# Altium footprint library XS library.PcbLib: 379 footprints (part 12 of 24)
Each footprint in its own frame and in the unit in brackets; x right, y up, seen from the top. Pads: shape width x height; smd on the part's side, far side on the other; paste and mask are expansions set on the pad; w line width, h text height; cw(c..) or ccw(c..) is an arc to the next point about the centre after c.
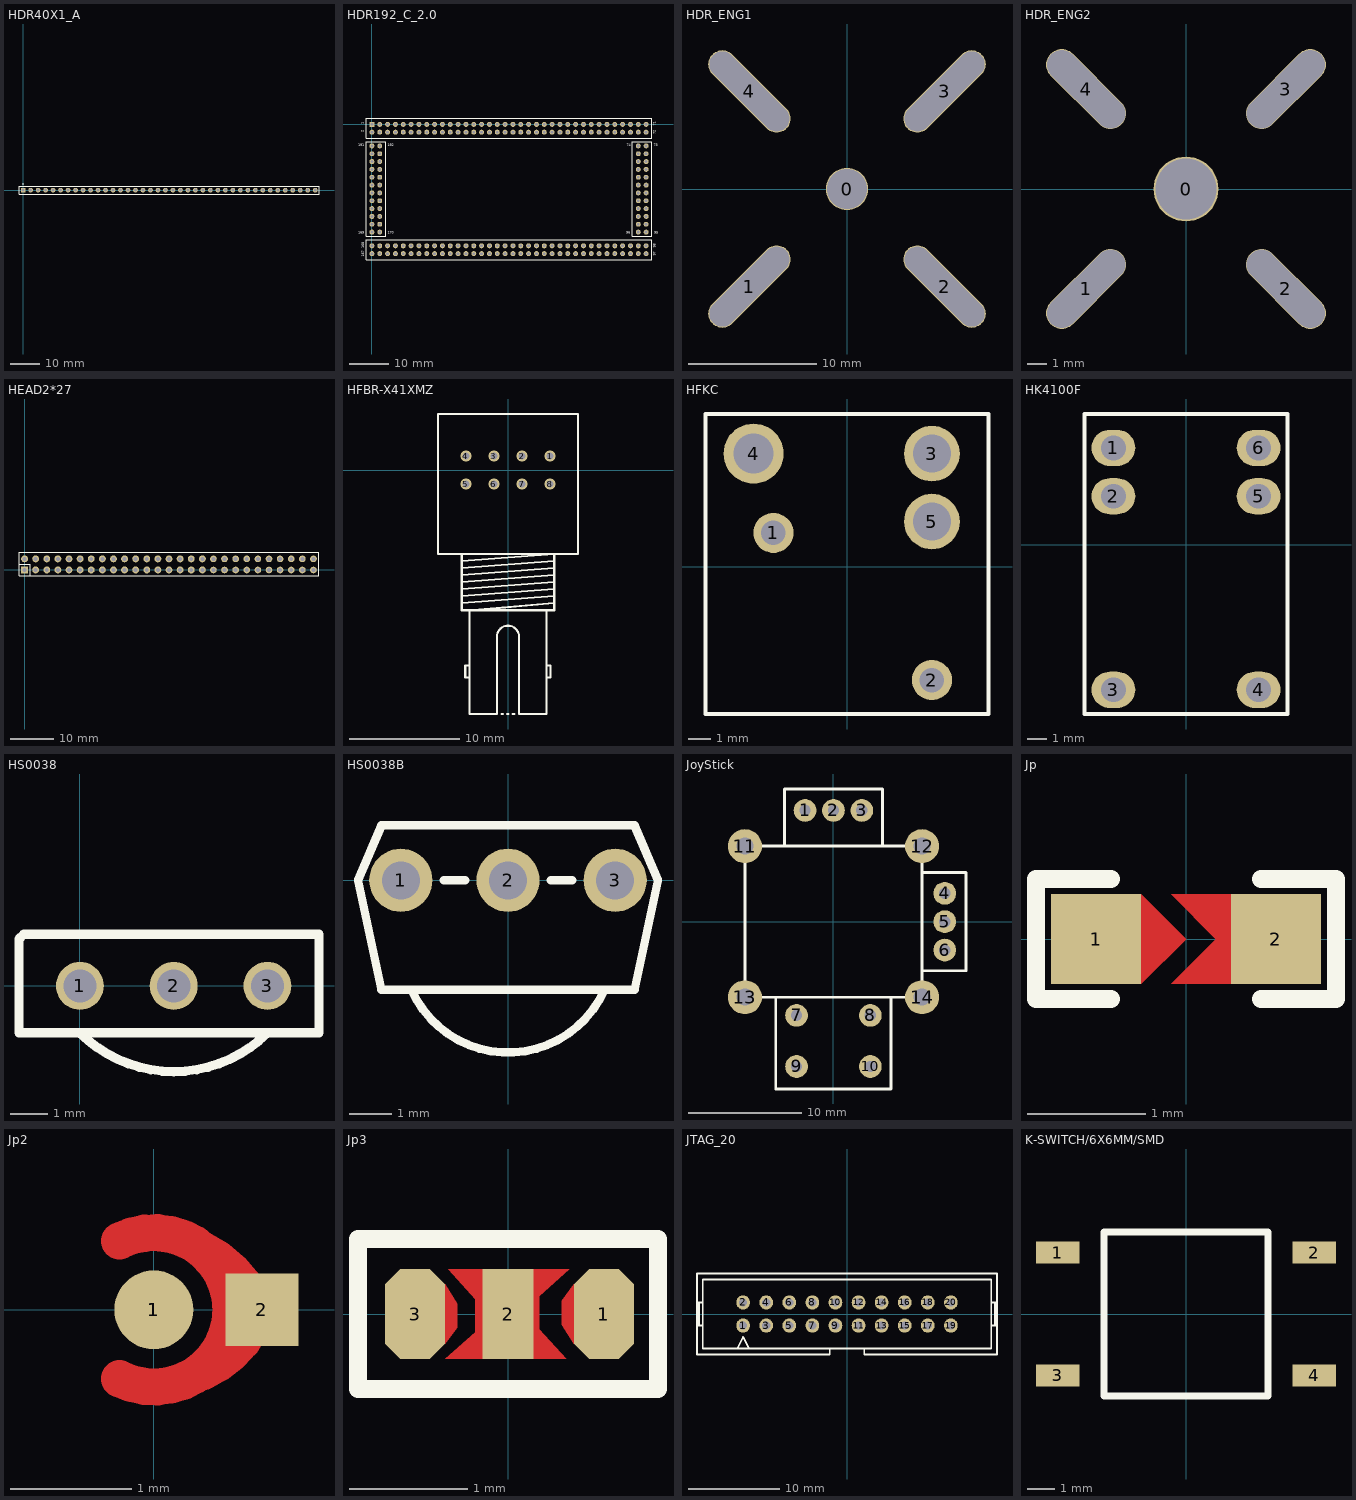
[diagram p11: the footprints below, top view; thin cyan lines are the x and y axes]

## HDR40X1_A [mm] "Connector; Header; 30 Position"
height 1.2
pads (40):
  rect 1.6x1.6 hole 0.99: 1(0,0)
  round 1.6 hole 0.99: 2(2.54,0) 3(5.08,0) 4(7.62,0) 5(10.16,0) 6(12.7,0) 7(15.24,0) 8(17.78,0) 9(20.32,0) 10(22.86,0) 11(25.4,0) 12(27.94,0) 13(30.48,0) 14(33.02,0) 15(35.56,0) 16(38.1,0) 17(40.64,0) 18(43.18,0) 19(45.72,0) 20(48.26,0) 21(50.8,0) 22(53.34,0) 23(55.88,0) 24(58.42,0) 25(60.96,0) 26(63.5,0) 27(66.04,0) 28(68.58,0) 29(71.12,0) 30(73.66,0)
  round 1.6 hole 1: 31(76.2,0) 32(78.74,0) 33(81.28,0) 34(83.82,0) 35(86.36,0) 36(88.9,0) 37(91.44,0) 38(93.98,0) 39(96.52,0) 40(99.06,0)
Top Overlay:
  circle w0.25: c0,2.05 r0.125
  lines w0.2: -1.4,-1.4 -1.4,1.4 100.33,1.4 100.33,-1.4 -1.4,-1.4

## HDR192_C_2.0 [mm] "2440"
height 7
pads (192):
  rect 1.27x1.27 hole 0.7: 1(0,0)
  round 1.27 hole 0.7: 2(0,-2) 3(2,0) 4(2,-2) 5(4,0) 6(4,-2) 7(6,0) 8(6,-2) 9(8,0) 10(8,-2) 11(10,0) 12(10,-2) 13(12,0) 14(12,-2) 15(14,0) 16(14,-2) 17(16,0) 18(16,-2) 19(18,0) 20(18,-2) 21(20,0) 22(20,-2) 23(22,0) 24(22,-2) 25(24,0) 26(24,-2) 27(26,0) 28(26,-2) 29(28,0) 30(28,-2) 31(30,0) 32(30,-2) 33(32,0) 34(32,-2) 35(34,0) 36(34,-2) 37(36,0) 38(36,-2) 39(38,0) 40(38,-2) 41(40,0) 42(40,-2) 43(42,0) 44(42,-2) 45(44,0) 46(44,-2) 47(46,0) 48(46,-2) 49(48,0) 50(48,-2) 51(50,0) 52(50,-2) 53(52,0) 54(52,-2) 55(54,0) 56(54,-2) 57(56,0) 58(56,-2) 59(58,0) 60(58,-2) 61(60,0) 62(60,-2) 63(62,0) 64(62,-2) 65(64,0) 66(64,-2) 67(66,0) 68(66,-2) 69(68,0) 70(68,-2) 71(70,0) 72(70,-2) 73(70,-5.5) 74(68,-5.5) 75(70,-7.5) 76(68,-7.5) 77(70,-9.5) 78(68,-9.5) 79(70,-11.5) 80(68,-11.5) 81(70,-13.5) 82(68,-13.5) 83(70,-15.5) 84(68,-15.5) 85(70,-17.5) 86(68,-17.5) 87(70,-19.5) 88(68,-19.5) 89(70,-21.5) 90(68,-21.5) 91(70,-23.5) 92(68,-23.5) 93(70,-25.5) 94(68,-25.5) 95(70,-27.5) 96(68,-27.5) 97(70,-33) 98(70,-31) 99(68,-33) 100(68,-31) 101(66,-33) 102(66,-31) 103(64,-33) 104(64,-31) 105(62,-33) 106(62,-31) 107(60,-33) 108(60,-31) 109(58,-33) 110(58,-31) 111(56,-33) 112(56,-31) 113(54,-33) 114(54,-31) 115(52,-33) 116(52,-31) 117(50,-33) 118(50,-31) 119(48,-33) 120(48,-31) 121(46,-33) 122(46,-31) 123(44,-33) 124(44,-31) 125(42,-33) 126(42,-31) 127(40,-33) 128(40,-31) 129(38,-33) 130(38,-31) 131(36,-33) 132(36,-31) 133(34,-33) 134(34,-31) 135(32,-33) 136(32,-31) 137(30,-33) 138(30,-31) 139(28,-33) 140(28,-31) 141(26,-33) 142(26,-31) 143(24,-33) 144(24,-31) 145(22,-33) 146(22,-31) 147(20,-33) 148(20,-31) 149(18,-33) 150(18,-31) 151(16,-33) 152(16,-31) 153(14,-33) 154(14,-31) 155(12,-33) 156(12,-31) 157(10,-33) 158(10,-31) 159(8,-33) 160(8,-31) 161(6,-33) 162(6,-31) 163(4,-33) 164(4,-31) 165(2,-33) 166(2,-31) 167(0,-33) 168(0,-31) 169(0,-27.5) 170(2,-27.5) 171(0,-25.5) 172(2,-25.5) 173(0,-23.5) 174(2,-23.5) 175(0,-21.5) 176(2,-21.5) 177(0,-19.5) 178(2,-19.5) 179(0,-17.5) 180(2,-17.5) 181(0,-15.5) 182(2,-15.5) 183(0,-13.5) 184(2,-13.5) 185(0,-11.5) 186(2,-11.5) 187(0,-9.5) 188(2,-9.5) 189(0,-7.5) 190(2,-7.5) 191(0,-5.5) 192(2,-5.5)
Top Overlay:
  lines w0.2: -1.469,-3.5 -1.469,1.5 71.439,1.5 71.439,-3.5 -1.469,-3.5
  lines w0.254: -1.5,-34.5 71.5,-34.5 71.5,-29.5 -1.5,-29.5 -1.5,-34.5 ; -1.5,-28.5 -1.5,-4.5 3.5,-4.5 3.5,-28.5 -1.5,-28.5 ; 66.5,-28.5 71.5,-28.5 71.5,-4.5 66.5,-4.5 66.5,-28.5
  text "1" at -2.032,0 h0.64
  text "2" at -2.032,-2.032 h0.64
  text "71" at 72.4,-0.4 h0.64
  text "72" at 72.4,-2.5 h0.64
  text "74" at 65.024,-5.588 h0.64
  text "73" at 72,-5.6 h0.64
  text "95" at 72.136,-27.94 h0.64
  text "96" at 64.9,-27.9 h0.64
  text "97" at 72.4,-33.6 h0.64
  text "98" at 72.4,-31.5 h0.64
  text "167" at -2,-33.8 h0.64
  text "170" at 4.064,-27.94 h0.64
  text "169" at -3.556,-27.94 h0.64
  text "191" at -3.556,-5.588 h0.64
  text "192" at 4.064,-5.588 h0.64
  text "168" at -2,-31.6 h0.64

## HDR_ENG1 [mm] "舵机"
height 3
pads (5):
  round 3.3 hole 3.1: 0(0,0)
  oval 2.2x8.2 hole 2 slot 8 at 45 deg rot 135: 1(-7.62,-7.62) 3(7.62,7.62)
  oval 2.2x8.2 hole 2 slot 8 at 135 deg rot 45: 2(7.62,-7.62) 4(-7.62,7.62)

## HDR_ENG2 [mm] "舵机"
height 3
pads (5):
  round 3.3 hole 3.1: 0(0,0)
  oval 1.6x5.1 hole 1.5 slot 5 at 45 deg rot 135: 1(-5.08,-5.08) 3(5.08,5.08)
  oval 1.6x5.1 hole 1.5 slot 5 at 135 deg rot 45: 2(5.08,-5.08) 4(-5.08,5.08)

## HEAD2*27 [mil]
pads (54):
  rect 62x62 hole 35: 1(0.42,0.42)
  round 62 hole 35: 2(0.42,100.42) 3(100.42,0.42) 4(100.42,100.42) 5(200.43,0.42) 6(200.43,100.42) 7(300.43,0.42) 8(300.43,100.42) 9(400.43,0.42) 10(400.43,100.42) 11(500.43,0.42) 12(500.43,100.42) 13(600.42,0.42) 14(600.42,100.42) 15(700.42,0.42) 16(700.42,100.42) 17(800.42,0.42) 18(800.42,100.42) 19(900.42,0.42) 20(900.42,100.42) 21(1000.42,0.42) 22(1000.42,100.42) 23(1100.42,0.42) 24(1100.42,100.42) 25(1200.42,0.42) 26(1200.42,100.42) 27(1300.42,0.42) 28(1300.42,100.42) 29(1400.42,0.42) 30(1400.42,100.42) 31(1500.42,0.42) 32(1500.42,100.42) 33(1600.42,0.42) 34(1600.42,100.42)
  round 60 hole 35: 35(1700,0) 36(1700,100) 37(1800,0) 38(1800,100) 39(1900,0) 40(1900,100) 41(2000,0) 42(2000,100) 43(2100,0) 44(2100,100) 45(2200,0) 46(2200,100) 47(2300,0) 48(2300,100) 49(2400,0) 50(2400,100) 51(2500,0) 52(2500,100) 53(2600,0) 54(2600,100)
Top Overlay:
  lines w7: -49.58,51.18 51.18,51.18 51.18,-49.58 ; -49.58,-49.58 1650.42,-49.58 2650,-49.58 2650,157.48 -47.97,157.48 -49.58,155.87 -49.58,150.43 -49.58,-49.58

## HFBR-X41XMZ [mm]
height 10.2
pads (8):
  round 1 hole 0.6: 1(3.81,1.27) 2(1.27,1.27) 3(-1.27,1.27) 4(-3.81,1.27) 5(-3.81,-1.27) 6(-1.27,-1.27) 7(1.27,-1.27) 8(3.81,-1.27)
Top Overlay:
  lines w0.2: -4.2,-12.065 4.2,-11.43 ; -4.2,-11.43 4.2,-10.795 ; -4.2,-10.795 4.2,-10.16 ; -4.2,-10.16 4.2,-9.525 ; -4.2,-9.525 4.2,-8.89 ; -4.2,-8.89 4.191,-8.255 ; -4.191,-8.255 4.2,-7.62 ; -3.5,-18.82 -3.881,-18.82 -3.881,-17.72 -3.5,-17.72 ; -3.175,-12.72 4.2,-12.065 ; -0.579,-22.12 -0.452,-22.12 ; -0.071,-22.12 0.056,-22.12 ; 0.437,-22.12 0.564,-22.12 ; 1,-15.12 1,-22.12 3.5,-22.12 3.5,-12.72 -3.5,-12.72 -3.5,-22.12 -1,-22.12 -1,-15.12 cw(c0,-15.113) 1,-15.113 ; 3.5,-18.82 3.866,-18.82 3.866,-17.72 3.5,-17.72 ; 4.2,-7.62 4.2,-12.72 -4.2,-12.72 -4.2,-7.62 4.2,-7.62 ; -6.35,-7.62 6.35,-7.62 6.35,5.08 -6.35,5.08 -6.35,-7.62

## HFKC [mm] "继电器"
height 11.8
pads (5):
  round 1.8 hole 1.1: 1(-3.302,1.524) 2(3.81,-5.08)
  round 2.5 hole 1.7: 3(3.81,5.08) 5(3.81,2.032)
  round 2.7 hole 1.8: 4(-4.191,5.08)
Top Overlay:
  lines w0.2: -6.35,-6.604 6.35,-6.604 6.35,6.858 -6.35,6.858 -6.35,-6.604

## HK4100F [mm] "继µ"
height 11.8
pads (6):
  oval 2.3x1.9 hole 1.3: 1(-3.81,5.08) 2(-3.81,2.54) 3(-3.81,-7.62) 4(3.81,-7.62) 5(3.81,2.54) 6(3.81,5.08)
Top Overlay:
  lines w0.2: -5.334,-8.89 5.334,-8.89 5.334,6.858 -5.334,6.858 -5.334,-8.89
3D body: height 12, standoff 0, extent -5.334,-8.89 5.334,6.858

## HS0038 [mm]
pads (3):
  round 1.3 hole 0.9: 1(0,0) 2(2.54,0) 3(5.08,0)
Top Overlay:
  lines w0.254: 0,-1.27 ccw(c2.54,1.27) 5.08,-1.27 ; -1.651,-1.27 6.477,-1.27 6.477,1.397 -1.524,1.397 -1.651,1.27 -1.651,-1.27

## HS0038B [mm] "红外接收头"
height 6.95
pads (3):
  round 1.5 hole 0.9: 1(-2.54,0) 2(0,0) 3(2.54,0)
Top Overlay:
  lines w0.2: -2.285,-2.599 ccw(c0,-1.584) 2.285,-2.599 ; -1.524,0 -1.016,0 ; 1.016,0 1.524,0 ; -3.556,0 -3,1.3 3,1.3 3.556,0 3,-2.6 -3,-2.6 -3.556,0

## JoyStick [mm] "模Ä"
height 20
pads (14):
  round 2 hole 1: 1(-2.5,9.8) 2(0,9.8) 3(2.5,9.8) 4(9.8,2.5) 5(9.8,0) 6(9.8,-2.5) 7(-3.25,-8.25) 8(3.25,-8.25) 9(-3.25,-12.75) 10(3.25,-12.75)
  round 3 hole 1.5: 11(-7.8,6.65) 12(7.8,6.65) 13(-7.8,-6.65) 14(7.8,-6.65)
Top Overlay:
  lines w0.254: -5.08,-6.65 -5.08,-14.732 5.08,-14.732 5.08,-6.65 ; -4.318,6.65 -4.318,11.684 4.318,11.684 4.318,6.65 ; 7.8,-4.318 11.684,-4.318 11.684,4.318 7.8,4.318 ; -7.8,-6.65 7.8,-6.65 7.8,6.65 -7.8,6.65 -7.8,-6.65

## Jp [mil] "跳点"
pads (2):
  rect 30x30 smd: 1(-30,0) 2(30,0)
Top Layer:
  region: -15,15 0,0 -15,-15 -45,-15 -45,15
  region: 45,15 -5,15 10,0 -5,-15 45,-15
Top Overlay:
  lines w6: -25,-20.06 -50,-20.06 -50,19.94 -25,19.94 ; 25,-19.94 50,-19.94 50,20.06 25,20.06
Top Solder:
  rectangle: -45,-17 46,17

## Jp2 [mm]
pads (3):
  round 0.65 smd: 1(0,0)
  round 1.6 on Top Solder: 1(0,0)
  rect 0.6x0.6 smd: 2(0.889,0)
Top Layer:
  lines w0.254: -0.305,0.559 cw(c0,-0.33) 0.889,-0.025 cw(c0.038,0.292) -0.279,-0.559
  lines w0.305: -0.284,-0.568 ccw(c0,0) -0.284,0.568

## Jp3 [mil]
pads (3):
  oct 20x30 smd: 1(32,0) 3(-31,0)
  rect 17x30 smd: 2(0,0)
Top Layer:
  region: 22,-10 18,-3.5 18,4.5 22,10 24,10 24,-10
  region: 5.5,15 20.5,15 10.5,6 10.5,-5 19.5,-15 5.5,-15
  region: -6,-15 -21,-15 -11,-6 -11,5 -20,15 -6,15
  region: -21,10 -17,3.5 -17,-4.5 -21,-10 -23,-10 -23,10
Top Overlay:
  lines w6: -50,-25 -50,25 50,25 50,-25 -50,-25
Top Solder:
  rectangle: -38,-19 39,19

## JTAG_20 [mm]
pads (20):
  oval 1.5x1.575 hole 0.9: 1(-11.43,-1.27) 2(-11.43,1.27) 3(-8.89,-1.27) 4(-8.89,1.27) 5(-6.35,-1.27) 6(-6.35,1.27) 7(-3.81,-1.27) 8(-3.81,1.27) 9(-1.27,-1.27) 10(-1.27,1.27) 11(1.27,-1.27) 12(1.27,1.27) 13(3.81,-1.27) 14(3.81,1.27) 15(6.35,-1.27) 16(6.35,1.27) 17(8.89,-1.27) 18(8.89,1.27) 19(11.43,-1.27) 20(11.43,1.27)
Top Overlay:
  lines w0.203: -16.51,-1.27 -15.875,-1.27 ; -16.51,1.27 -15.875,1.27 ; -16.298,-1.27 -16.298,1.27 ; -12.065,-3.81 -11.43,-2.54 -10.795,-3.81 ; -8.625,-4.445 -1.905,-4.445 -1.905,-3.81 ; -8.255,-4.445 -16.51,-4.445 -16.51,4.445 16.51,4.445 16.51,-4.445 8.255,-4.445 1.905,-4.445 1.905,-3.81 ; 15.875,-1.27 16.51,-1.27 ; 15.875,1.27 16.51,1.27 ; 16.298,-1.27 16.298,1.27 ; -1.905,-3.81 1.905,-3.81 ; -1.905,-3.81 -15.875,-3.81 -15.875,3.81 15.875,3.81 15.875,-3.81 1.905,-3.81

## K-SWITCH/6X6MM/SMD [mm]
pads (4):
  rect 1.6x0.8 smd: 1(-4.7,2.25) 2(4.7,2.25) 3(-4.7,-2.25) 4(4.7,-2.25)
Top Overlay:
  lines w0.254: -3,-3 -3,3 3,3 3,-3 -3,-3